# EAGLE library part XCV100_TQ144 (library xilinx-xcv)
xcv100_tq144_1532 edit this description Auto generated by make-symbol-device-package-bsdl.ulp Rev. 26 Source: xcv100_tq144_1532.bsd
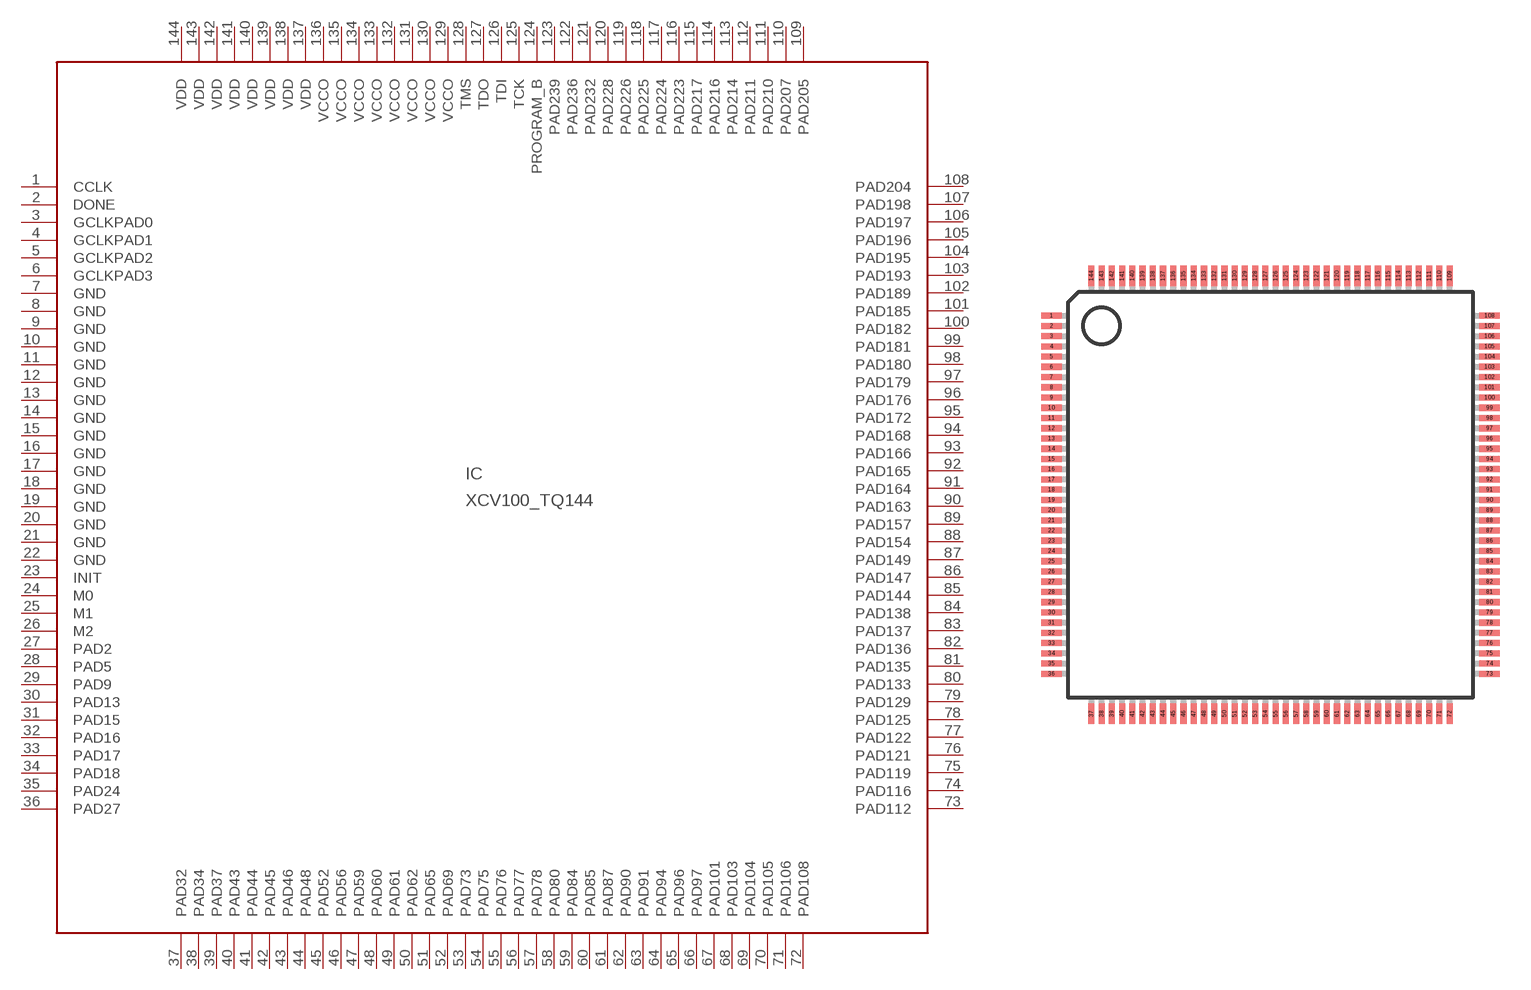
[diagram p4: symbol with the pads of TQ144; footprint TQ144]

Designator prefix IC

## XCV100_TQ144 (OC_FARNELL: unknown; OC_NEWARK: unknown)  [TQ144]
1  CCLK
2  DONE
3  GCLKPAD0  in
4  GCLKPAD1  in
5  GCLKPAD2  in
6  GCLKPAD3  in
7  GND  pwr
8  GND  pwr
9  GND  pwr
10  GND  pwr
11  GND  pwr
12  GND  pwr
13  GND  pwr
14  GND  pwr
15  GND  pwr
16  GND  pwr
17  GND  pwr
18  GND  pwr
19  GND  pwr
20  GND  pwr
21  GND  pwr
22  GND  pwr
23  INIT
24  M0  in
25  M1  in
26  M2  in
27  PAD2
28  PAD5
29  PAD9
30  PAD13
31  PAD15
32  PAD16
33  PAD17
34  PAD18
35  PAD24
36  PAD27
37  PAD32
38  PAD34
39  PAD37
40  PAD43
41  PAD44
42  PAD45
43  PAD46
44  PAD48
45  PAD52
46  PAD56
47  PAD59
48  PAD60
49  PAD61
50  PAD62
51  PAD65
52  PAD69
53  PAD73
54  PAD75
55  PAD76
56  PAD77
57  PAD78
58  PAD80
59  PAD84
60  PAD85
61  PAD87
62  PAD90
63  PAD91
64  PAD94
65  PAD96
66  PAD97
67  PAD101
68  PAD103
69  PAD104
70  PAD105
71  PAD106
72  PAD108
73  PAD112
74  PAD116
75  PAD119
76  PAD121
77  PAD122
78  PAD125
79  PAD129
80  PAD133
81  PAD135
82  PAD136
83  PAD137
84  PAD138
85  PAD144
86  PAD147
87  PAD149
88  PAD154
89  PAD157
90  PAD163
91  PAD164
92  PAD165
93  PAD166
94  PAD168
95  PAD172
96  PAD176
97  PAD179
98  PAD180
99  PAD181
100  PAD182
101  PAD185
102  PAD189
103  PAD193
104  PAD195
105  PAD196
106  PAD197
107  PAD198
108  PAD204
109  PAD205
110  PAD207
111  PAD210
112  PAD211
113  PAD214
114  PAD216
115  PAD217
116  PAD223
117  PAD224
118  PAD225
119  PAD226
120  PAD228
121  PAD232
122  PAD236
123  PAD239
124  PROGRAM_B  in
125  TCK  in
126  TDI  in
127  TDO  out
128  TMS  in
129  VCCO  pwr
130  VCCO  pwr
131  VCCO  pwr
132  VCCO  pwr
133  VCCO  pwr
134  VCCO  pwr
135  VCCO  pwr
136  VCCO  pwr
137  VDD  pwr
138  VDD  pwr
139  VDD  pwr
140  VDD  pwr
141  VDD  pwr
142  VDD  pwr
143  VDD  pwr
144  VDD  pwr

## Footprint TQ144 (pad centres in mm)
TQ144 Auto generated by make-symbol-device-package-bsdl.ulp Rev. 26 Source: xcv100_tq144_1532.bsd; tq144.pdf
smd 1 x 0.3: 1 -10.7,8.75; 2 -10.7,8.25; 3 -10.7,7.75; 4 -10.7,7.25; 5 -10.7,6.75; 6 -10.7,6.25; 7 -10.7,5.75; 8 -10.7,5.25; 9 -10.7,4.75; 10 -10.7,4.25; 11 -10.7,3.75; 12 -10.7,3.25; 13 -10.7,2.75; 14 -10.7,2.25; 15 -10.7,1.75; 16 -10.7,1.25; 17 -10.7,0.75; 18 -10.7,0.25; 19 -10.7,-0.25; 20 -10.7,-0.75; 21 -10.7,-1.25; 22 -10.7,-1.75; 23 -10.7,-2.25; 24 -10.7,-2.75; 25 -10.7,-3.25; 26 -10.7,-3.75; 27 -10.7,-4.25; 28 -10.7,-4.75; 29 -10.7,-5.25; 30 -10.7,-5.75; 31 -10.7,-6.25; 32 -10.7,-6.75; 33 -10.7,-7.25; 34 -10.7,-7.75; 35 -10.7,-8.25; 36 -10.7,-8.75; 73 10.7,-8.75; 74 10.7,-8.25; 75 10.7,-7.75; 76 10.7,-7.25; 77 10.7,-6.75; 78 10.7,-6.25; 79 10.7,-5.75; 80 10.7,-5.25; 81 10.7,-4.75; 82 10.7,-4.25; 83 10.7,-3.75; 84 10.7,-3.25; 85 10.7,-2.75; 86 10.7,-2.25; 87 10.7,-1.75; 88 10.7,-1.25; 89 10.7,-0.75; 90 10.7,-0.25; 91 10.7,0.25; 92 10.7,0.75; 93 10.7,1.25; 94 10.7,1.75; 95 10.7,2.25; 96 10.7,2.75; 97 10.7,3.25; 98 10.7,3.75; 99 10.7,4.25; 100 10.7,4.75; 101 10.7,5.25; 102 10.7,5.75; 103 10.7,6.25; 104 10.7,6.75; 105 10.7,7.25; 106 10.7,7.75; 107 10.7,8.25; 108 10.7,8.75
smd 0.3 x 1: 37 -8.75,-10.7; 38 -8.25,-10.7; 39 -7.75,-10.7; 40 -7.25,-10.7; 41 -6.75,-10.7; 42 -6.25,-10.7; 43 -5.75,-10.7; 44 -5.25,-10.7; 45 -4.75,-10.7; 46 -4.25,-10.7; 47 -3.75,-10.7; 48 -3.25,-10.7; 49 -2.75,-10.7; 50 -2.25,-10.7; 51 -1.75,-10.7; 52 -1.25,-10.7; 53 -0.75,-10.7; 54 -0.25,-10.7; 55 0.25,-10.7; 56 0.75,-10.7; 57 1.25,-10.7; 58 1.75,-10.7; 59 2.25,-10.7; 60 2.75,-10.7; 61 3.25,-10.7; 62 3.75,-10.7; 63 4.25,-10.7; 64 4.75,-10.7; 65 5.25,-10.7; 66 5.75,-10.7; 67 6.25,-10.7; 68 6.75,-10.7; 69 7.25,-10.7; 70 7.75,-10.7; 71 8.25,-10.7; 72 8.75,-10.7; 109 8.75,10.7; 110 8.25,10.7; 111 7.75,10.7; 112 7.25,10.7; 113 6.75,10.7; 114 6.25,10.7; 115 5.75,10.7; 116 5.25,10.7; 117 4.75,10.7; 118 4.25,10.7; 119 3.75,10.7; 120 3.25,10.7; 121 2.75,10.7; 122 2.25,10.7; 123 1.75,10.7; 124 1.25,10.7; 125 0.75,10.7; 126 0.25,10.7; 127 -0.25,10.7; 128 -0.75,10.7; 129 -1.25,10.7; 130 -1.75,10.7; 131 -2.25,10.7; 132 -2.75,10.7; 133 -3.25,10.7; 134 -3.75,10.7; 135 -4.25,10.7; 136 -4.75,10.7; 137 -5.25,10.7; 138 -5.75,10.7; 139 -6.25,10.7; 140 -6.75,10.7; 141 -7.25,10.7; 142 -7.75,10.7; 143 -8.25,10.7; 144 -8.75,10.7